# EAGLE library part SN74LVC245ANE4 (library Carroll's Parts)
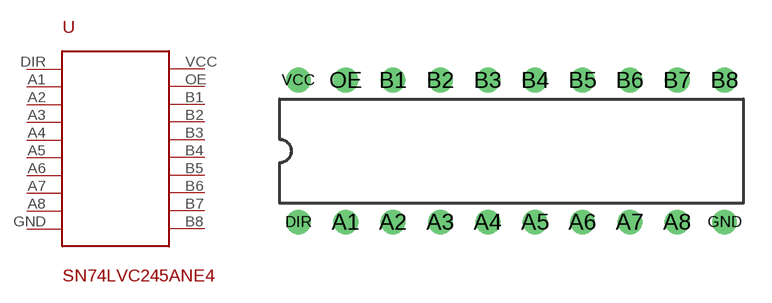
[diagram p6: symbol with the pads of SN74LVC245ANE4; footprint SN74LVC245ANE4]

Designator prefix -

## SN74LVC245ANE4  [SN74LVC245ANE4]
A1  A1
A2  A2
A3  A3
A4  A4
A5  A5
A6  A6
A7  A7
A8  A8
B1  B1
B2  B2
B3  B3
B4  B4
B5  B5
B6  B6
B7  B7
B8  B8
DIR  DIR  in
GND  GND  pas
OE  OE  in
VCC  VCC  pas

## Footprint SN74LVC245ANE4 (pad centres in mm)
NT (R-PDIP-T24) PLASTIC DUAL-IN-LINE PACKAGE Source: http://focus.ti.com/lit/ml/mpdi004a/mpdi004a.pdf
drill 0.813 pad 1.2: A1 -11.43,-3.81; A2 -8.89,-3.81; A3 -6.35,-3.81; A4 -3.81,-3.81; A5 -1.27,-3.81; A6 1.27,-3.81; A7 3.81,-3.81; A8 6.35,-3.81; B1 -8.89,3.81; B2 -6.35,3.81; B3 -3.81,3.81; B4 -1.27,3.81; B5 1.27,3.81; B6 3.81,3.81; B7 6.35,3.81; B8 8.89,3.81; DIR -13.97,-3.81; GND 8.89,-3.81; OE -11.43,3.81; VCC -13.97,3.81